# EAGLE library part PIC18F2450 (library _RoweTel)
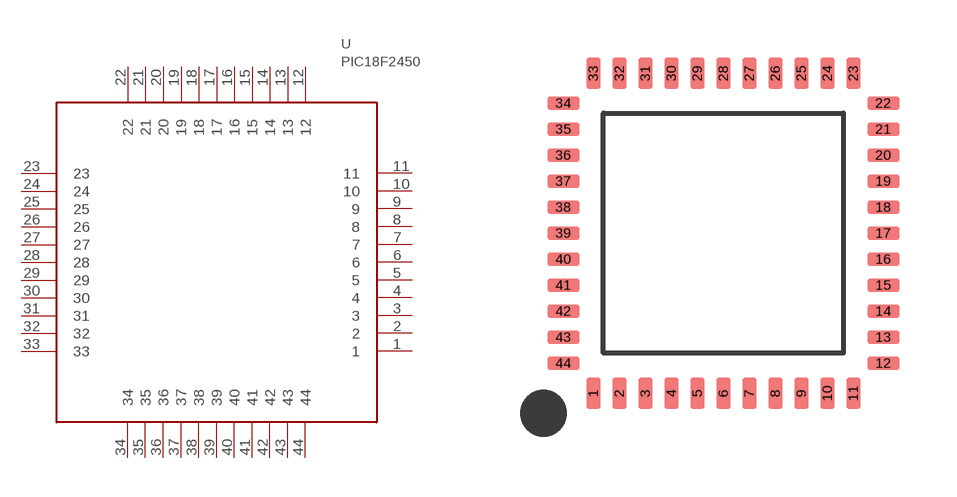
[diagram p51: symbol with the pads of QFN44; footprint QFN44]

Designator prefix U

## PIC18F2450  [QFN44]
1  1
2  2
3  3
4  4
5  5
6  6
7  7
8  8
9  9
10  10
11  11
12  12
13  13
14  14
15  15
16  16
17  17
18  18
19  19
20  20
21  21
22  22
23  23
24  24
25  25
26  26
27  27
28  28
29  29
30  30
31  31
32  32
33  33
34  34
35  35
36  36
37  37
38  38
39  39
40  40
41  41
42  42
43  43
44  44

## Footprint QFN44 (pad centres in mm)
smd 0.35 x 0.8: 1 -3.25,-4; 2 -2.6,-4; 3 -1.95,-4; 4 -1.3,-4; 5 -0.65,-4; 6 0,-4; 7 0.65,-4; 8 1.3,-4; 9 1.95,-4; 10 2.6,-4; 11 3.25,-4; 23 3.25,4; 24 2.6,4; 25 1.95,4; 26 1.3,4; 27 0.65,4; 28 0,4; 29 -0.65,4; 30 -1.3,4; 31 -1.95,4; 32 -2.6,4; 33 -3.25,4
smd 0.8 x 0.35: 12 4,-3.25; 13 4,-2.6; 14 4,-1.95; 15 4,-1.3; 16 4,-0.65; 17 4,0; 18 4,0.65; 19 4,1.3; 20 4,1.95; 21 4,2.6; 22 4,3.25; 34 -4,3.25; 35 -4,2.6; 36 -4,1.95; 37 -4,1.3; 38 -4,0.65; 39 -4,0; 40 -4,-0.65; 41 -4,-1.3; 42 -4,-1.95; 43 -4,-2.6; 44 -4,-3.25